# Altium integrated library ICs - Isolated Operational Amplifiers.IntLib: 1 symbol
Pins are listed as number, name and electrical type; pins without a type are passive.

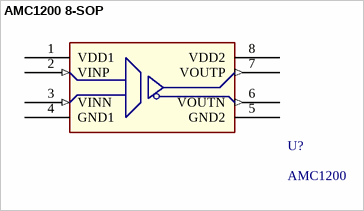
[diagram p0: symbol AMC1200 8-SOP]

## AMC1200 8-SOP
designator U?, comment AMC1200
Isolation Amplifier 1 Circuit Differential 8-SOP; Manufacturer 1: Texas Instruments; Manufacturer 1 PN: AMC1200SDUBR; ComponentLink1Description: Datasheet; ComponentLink1URL: http://www.ti.com/general/docs/suppproductinfo.tsp?distId=10&gotoUrl=http%3A%2F%2Fwww.ti.com%2Flit%2Fgpn%2Famc1200; Digikey PN: 296-28558-1-ND; Mouser PN: 595-AMC1200SDUBR; Notes: *
footprint AMC1200 8-SOP (Isolation Amplifier 1 Circuit Differential 8-SOP)
pins: 1 VDD1 (power) "High-side Power Supply", 2 VINP (in) "Noninverting analog input", 3 VINN (in) "Inverting analog input", 4 GND1 (power), 5 GND2 (power), 6 VOUTN (out) "Inverting analog output", 7 VOUTP (out) "Noninverting analog output", 8 VDD2 (power) "Low-side power supply"